# Altium schematic symbol library PCB_Interface_Inverter_UZ.SCHLIB: 18 symbols
Pins are listed as number, name and electrical type; pins without a type are passive.

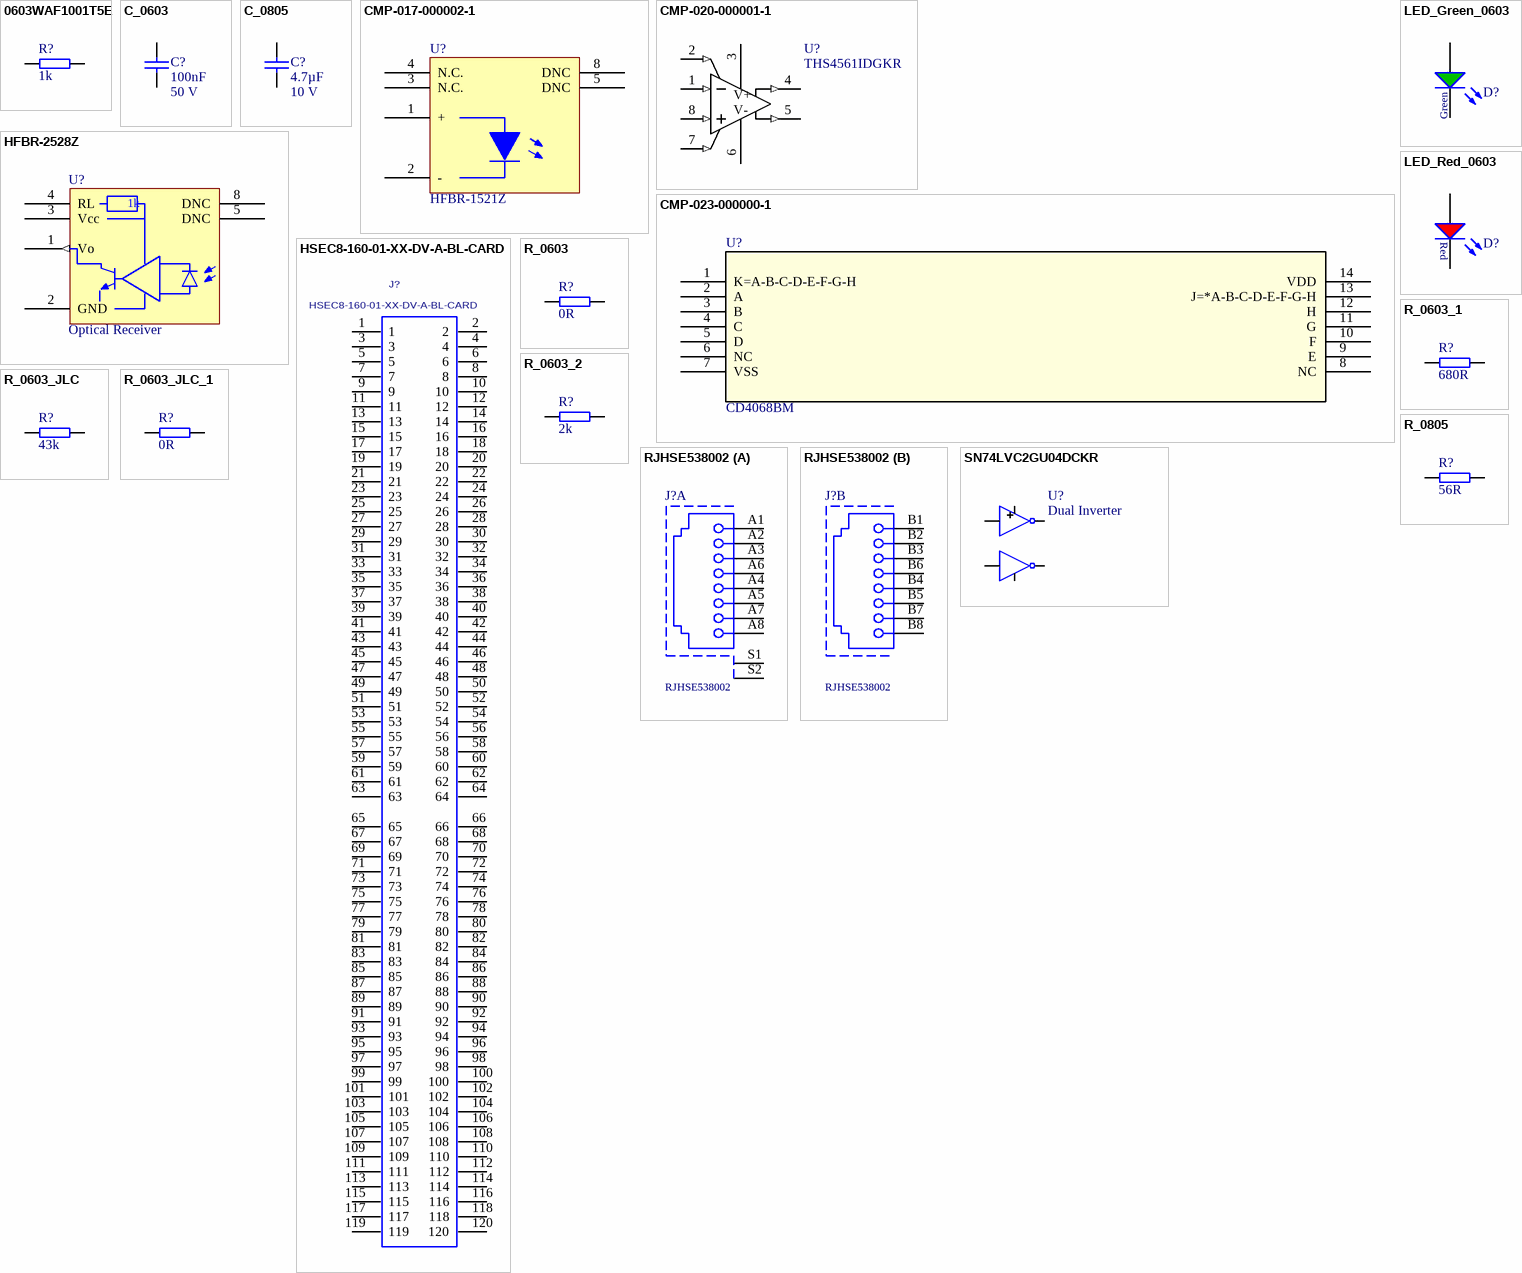
[diagram p0: symbols 0603WAF1001T5E to SN74LVC2GU04DCKR]

## 0603WAF1001T5E
designator R?, comment 1k
SMD resistor E24 series; Manufacturer Part Number: 0603WAF1001T5E; Manufacturer: UNI-ROYAL; Tolerance: 1%; Created from: AGeiger; PartID: 74; Created On: 14/12/2020 16:17:14; ComponentLink1Description: Datasheet; ComponentLink1URL: https://datasheet.lcsc.com/lcsc/2206010130_UNI-ROYAL-Uniroyal-Elec-0603WAF1001T5E_C21190.pdf; Component Type: SMD resistor; Device Package: 0603; Last Updated: 25/08/2022 16:01:46; Mounting Type: SMD; Supplier 1: LCSC; Supplier Part Number 1: C21190; Type: Resistor; Value: 1k; Live Cycle Status: 1; Stock number: Labor SMD Container; LCSC Part Number: C21190
footprint RES 0603_1608
footprint RES 0603_1608 NO TO
pins: 1, 2

## C_0603
designator C?, comment Rated Voltage: 50 V  (hidden comment: 100nF)
CAP 0603 (1608 Metric) SMD; Tolerance: ±5%; Case-Metric: 1608; Case-EIA: 0603; Max Thickness: 1 mm; Technology: SMT; Created: 2018_09_06_AGeiger; Dielectric: *; Supplier 1: *; Supplier Part Number 1: *; MF: *; MPN: *; Package: 0603; LCSC Part #: C14663; Value: 100nF
footprint C_0603(1608)100_L (Chip Capacitor, Body 1.6x0.8mm, Height 1.0mm, IPC High Density)
pins: 1, 2
1 alternate drawing of the same symbol

## C_0805
designator C?, comment Voltage: 10 V  (hidden comment: 4.7µF)
CAP 0805 (2012 Metric) SMD; MPN: LMF212B7475KGHT; Tolerance: ±10%; Case-Metric: 2012; Dielectric: X7R; MF: Taiyo Yuden; Case-EIA: 0805; Max Thickness: 1 mm; Technology: SMT; Created: 2018_09_06_AGeiger; Supplier 1: Mouser; Supplier Part Number 1: 963-LMF212B7475KGHT; Package: 0805; LCSC Part #: C1779; Value: 4.7µF
footprint CAP_2012X06N (Chip Resistor, 2-Leads, Body 2,00x1,25mm, IPC Medium Density)
pins: 1, 2
1 alternate drawing of the same symbol

## CMP-017-000002-1
designator U?, comment HFBR-1521Z
Fibre Optic Transmitters, Link Horiz 5MBd Tx RoHS; MF: Broadcom/Avago; Supply Voltage: 5V; Wavelength: 660 nm; Foreward Current: 60 mA; Created: 2019_04_09_Kreppel; Data Rate: 5 MBd; Design Item ID: HFBR-1521Z; MPN: HFBR-1521Z; Source: UZOhm_Optical.SchLib
footprint HFBRx5XX
pins: 1 + "Anode", 2 - "Cathode", 3 N.C. "Not Connected", 4 N.C. "Not Connected", 5 DNC "Do Not Connect", 8 DNC "Do Not Connect"

## CMP-020-000001-1
designator U?, comment THS4561IDGKR
No Description Available; Mfr_Name: Texas Instruments; TYPE: TYPE; Source: THS4561IDGKR.SchLib; RefDes: RefDes; Design Item ID: THS4561IDGKR
footprint DGK0008A_N
pins: 1 VIN- (in), 2 VOCM (in), 3 VS+ (power), 4 VOUT+ (out), 5 VOUT- (out), 6 VS- (power), 7 PD_N (in), 8 VIN+ (in)
text: V+; V-

## CMP-023-000000-1
designator U?, comment CD4068BM
No Description Available; Mfr_Name: Texas Instruments; Type: Type; Source: CD4068BM.SchLib; Design Item ID: CD4068BM; RefDes: RefDes
footprint D14
pins: 1 K=A-B-C-D-E-F-G-H, 2 A, 3 B, 4 C, 5 D, 6 NC, 7 VSS (power), 8 NC, 9 E, 10 F, 11 G, 12 H, 13 J=*A-B-C-D-E-F-G-H, 14 VDD (power)

## HFBR-2528Z
designator U?, comment Optical Receiver
Fibre Optic Receivers, LINK HORIZ 5MBd RC VR RoHS; MPN: HFBR-2521Z; Suppier Part Number 2: 516-2062-ND; MF: Boadcom/Avago; Wavelength: 660 nm; Iout max: 25 mA; Supply Voltage: 5V; Created: 2019_04_09_Kreppel; Data Rate: 5 MBd; Supplier 1: Mouser; Supplier 2: Digi-Key; Supplier Part Number 1: 630-HFBR-2521Z
footprint HFBRx5XX
pins: 1 Vo (out) "Data", 2 GND (power) "Ground", 3 Vcc (power) "Source", 4 RL, 5 DNC "Do Not Connect", 8 DNC "Do Not Connect"
text: 1k

## HSEC8-160-01-XX-DV-A-BL-CARD
designator J?
MATING CARD LAYOUT FOR HSEC8-160-01-XX-DV-A-BL.; MANUFACTURER: SAMTEC; CREATED: April 20, 2018 - Wendy Xin; PCB DECAL: HSEC8-160-01-XX-DV-A-BL-CARD; Design Item ID: HSEC8-160-01-XX-DV-A-BL-CARD; Source: HSEC8-160-01-XX-DV-A-BL-CARD.SCHLIB; Component Type: Standard; Pin Count: 120
footprint HSEC8-160-01-XX-DV-A-BL-CARD
pins: 1, 2, 3, 4, 5, 6, 7, 8, 9, 10, 11, 12, 13, 14, 15, 16, 17, 18, 19, 20, 21, 22, 23, 24, 25, 26, 27, 28, 29, 30, 31, 32, 33, 34, 35, 36, 37, 38, 39, 40, 41, 42, 43, 44, 45, 46, 47, 48, 49, 50, 51, 52, 53, 54, 55, 56, 57, 58, 59, 60, 61, 62, 63, 64, 65, 66, 67, 68, 69, 70, 71, 72, 73, 74, 75, 76, 77, 78, 79, 80, 81, 82, 83, 84, 85, 86, 87, 88, 89, 90, 91, 92, 93, 94, 95, 96, 97, 98, 99, 100, 101, 102, 103, 104, 105, 106, 107, 108, 109, 110, 111, 112, 113, 114, 115, 116, 117, 118, 119, 120

## LED_Green_0603
designator D?, comment 150060GS75000  (value not drawn)
WL-SMCW SMD Mono-color Chip LED Waterclear, size 0603, Green, 3.2 V, 140°; Forward Voltage: 3.2 V; Luminous Intensity: 430 mcd; Peak Wavelength: 515 nm; Dominant Wavelength: 520 nm; MF: Wuerth Elektronik; Published Date: Sep. 2017; ComponentLink1Description: Manufacturer; ComponentLink1URL: http://www.we-online.de; ComponentLink2Description: Datasheet; ComponentLink2URL: http://katalog.we-online.com/led/datasheet/150060GS75000.pdf; MPN: 150060GS75000; Size: 0603; Viewing Angle: 140°; Emitting Color: Green; Value: 150060GS75000; Package: 0603; Created: 2018_09_06_AGeiger; Supplier 1: Farnell; Supplier Part Number 1: 2322070; Supplier 2: Mouser; Supplier Part Number 2: 710-150060GS75000; Supplier 3: Digi-Key; Supplier Part Number 3: 732-4971-1-ND; LCSC Part #: C72043
footprint WL-SMCW_0603
pins: 1 K, 2 A

## LED_Red_0603
designator D?, comment 150060RS75000  (value not drawn)
WL-SMCW SMD Mono-color Chip LED Waterclear, size 0603, Red, 2 V, 140°; Forward Voltage: 2 V; Luminous Intensity: 250 mcd; Peak Wavelength: 630 nm; Dominant Wavelength: 625 nm; MF: Wuerth Elektronik; Published Date: Sep. 2017; ComponentLink1Description: Manufacturer; ComponentLink1URL: http://www.we-online.de; ComponentLink2Description: Datasheet; ComponentLink2URL: http://katalog.we-online.com/led/datasheet/150060RS75000.pdf; MPN: 150060RS75000; Size: 0603; Viewing Angle: 140°; Emitting Color: Red; Value: 150060RS75000; Package: 0603; Created: 2018_09_06_AGeiger; Supplier 1: Farnell; Supplier Part Number 1: 2322071; Supplier 2: Mouser; Supplier Part Number 2: 710-150060RS75000; Supplier 3: Digi-Key; Supplier Part Number 3: 732-4978-1-ND; LCSC Part #: C2286
footprint WL-SMCW_0603
pins: 1 K, 2 A

## R_0603
designator R?, comment 0R
SMD Resistor 0603; MPN: CRCW06030000Z0EBC; Tolerance: 1%; Voltage: 75V; Power: 100 mW; MF: Vishay; Package: 0603; Value: 0R; Created: 2018_09_06_AGeiger; Supplier 1: Mouser; Supplier Part Number 1: 71-CRCW06030000Z0EBC; LCSC Part #: C21189
footprint R_0603_N (SMD Resistor, Body 1.6x0.8mm, IPC Medium Density)
pins: 1, 2

## R_0603_1
designator R?, comment 680R
SMD Resistor 0603; MPN: CR0603-FX-3901ELF; Tolerance: 1%; Voltage: 75V; Power: 100 mW; MF: Bourns; Package: 0603; Value: 680R; Created: 2018_09_06_AGeiger; Supplier 1: Mouser; Supplier Part Number 1: 652-CR0603-FX3901ELF; LCSC Part #: C23228
footprint R_0603_N (SMD Resistor, Body 1.6x0.8mm, IPC Medium Density)
pins: 1, 2

## R_0603_2
designator R?, comment 2k
SMD Resistor 0603; MPN: RC0603FR-072KL; Tolerance: 1%; Voltage: 75 V; Power: 100 mW; MF: Yageo; Package: 0603; Value: 2k; Created: 2018_09_06_AGeiger; Supplier 1: Mouser; Supplier Part Number 1: 603-RC0603FR-072KL; LCSC Part #: C22975
footprint R_0603_N (SMD Resistor, Body 1.6x0.8mm, IPC Medium Density)
pins: 1, 2

## R_0603_JLC
designator R?, comment 43k
SMD Resistor 0603; Tolerance: 1%; Voltage: 50V; Power: 100 mW; Package: 0603; Value: 43k; Created: 2018_09_06_AGeiger; Supplier 1: *; Supplier Part Number 1: *; LCSC Part #: C23172
footprint R_0603_N (SMD Resistor, Body 1.6x0.8mm, IPC Medium Density)
pins: 1, 2

## R_0603_JLC_1
designator R?, comment 0R
SMD Resistor 0603; Tolerance: 1%; Voltage: 75V; Power: 100 mW; Package: 0603; Value: 0R; Created: 2018_09_06_AGeiger; Supplier 1: Mouser; Supplier Part Number 1: 71-CRCW06030000Z0EBC; LCSC Part #: C21189
footprint R_0603_N (SMD Resistor, Body 1.6x0.8mm, IPC Medium Density)
pins: 1, 2

## R_0805
designator R?, comment 56R
SMD Resistor 0805; MPN: CR0805-FX-1200ELF; Case_EIA: 0805; MF: Bourns; Voltage: 150 V; Power: 125 mW; Tolerance: 1%; Value: 56R; Supplier 1: Mouser; Supplier Part Number 1: 652-CR0805FX-1200ELF*; LCSC Part #: C17437
footprint RES_2012X06N (Chip Resistor, 2-Leads, Body 2,00x1,25mm, IPC Medium Density)
pins: 1, 2

## RJHSE538002
designator J?
CAT5, RJ45 Connector, 1x2; Manufacturer: Amphenol; Created from: MGremer; Manufacturer Part Number: RJHSE538002; PartID: 4; Created On: 22/02/2021 16:43:38; ComponentLink1Description: Datasheet; ComponentLink1URL: https://www.farnell.com/cad/2360382.pdf; Component Type: RJ45 Connector; Device Package: RJ45; Last Updated: 22/02/2021 16:43:38; Mounting Type: THT; Series: RJHSE; Supplier 1: Farnell; Supplier Part Number 1: 1860605; Type: RJ45 Connector; Live Cycle Status: 1; Stock number: not stored
footprint RJHSE-5380-02
part A pins: A1, A2, A3, A4, A5, A6, A7, A8, S1, S2
part B pins: B1, B2, B3, B4, B5, B6, B7, B8

## SN74LVC2GU04DCKR
designator U?, comment Dual Inverter
This dual inverter is designed for 1.65-V to 5.5-V VCC / operation.; LCSC Part #: C116660; JLCSMT Rotation: 180
footprint SN74LVC2GU04DCKR (TSOP, 6-Leads, Body 2,00x1,25mm, Pitch 0,65mm, IPC Medium Density)
pins: 1 IN1, 2 GND, 3 IN2, 4 OUT2, 5 VCC, 6 OUT2